# Altium integrated library NSC MiscPower.IntLib: 1417 symbols (part 19 of 39)
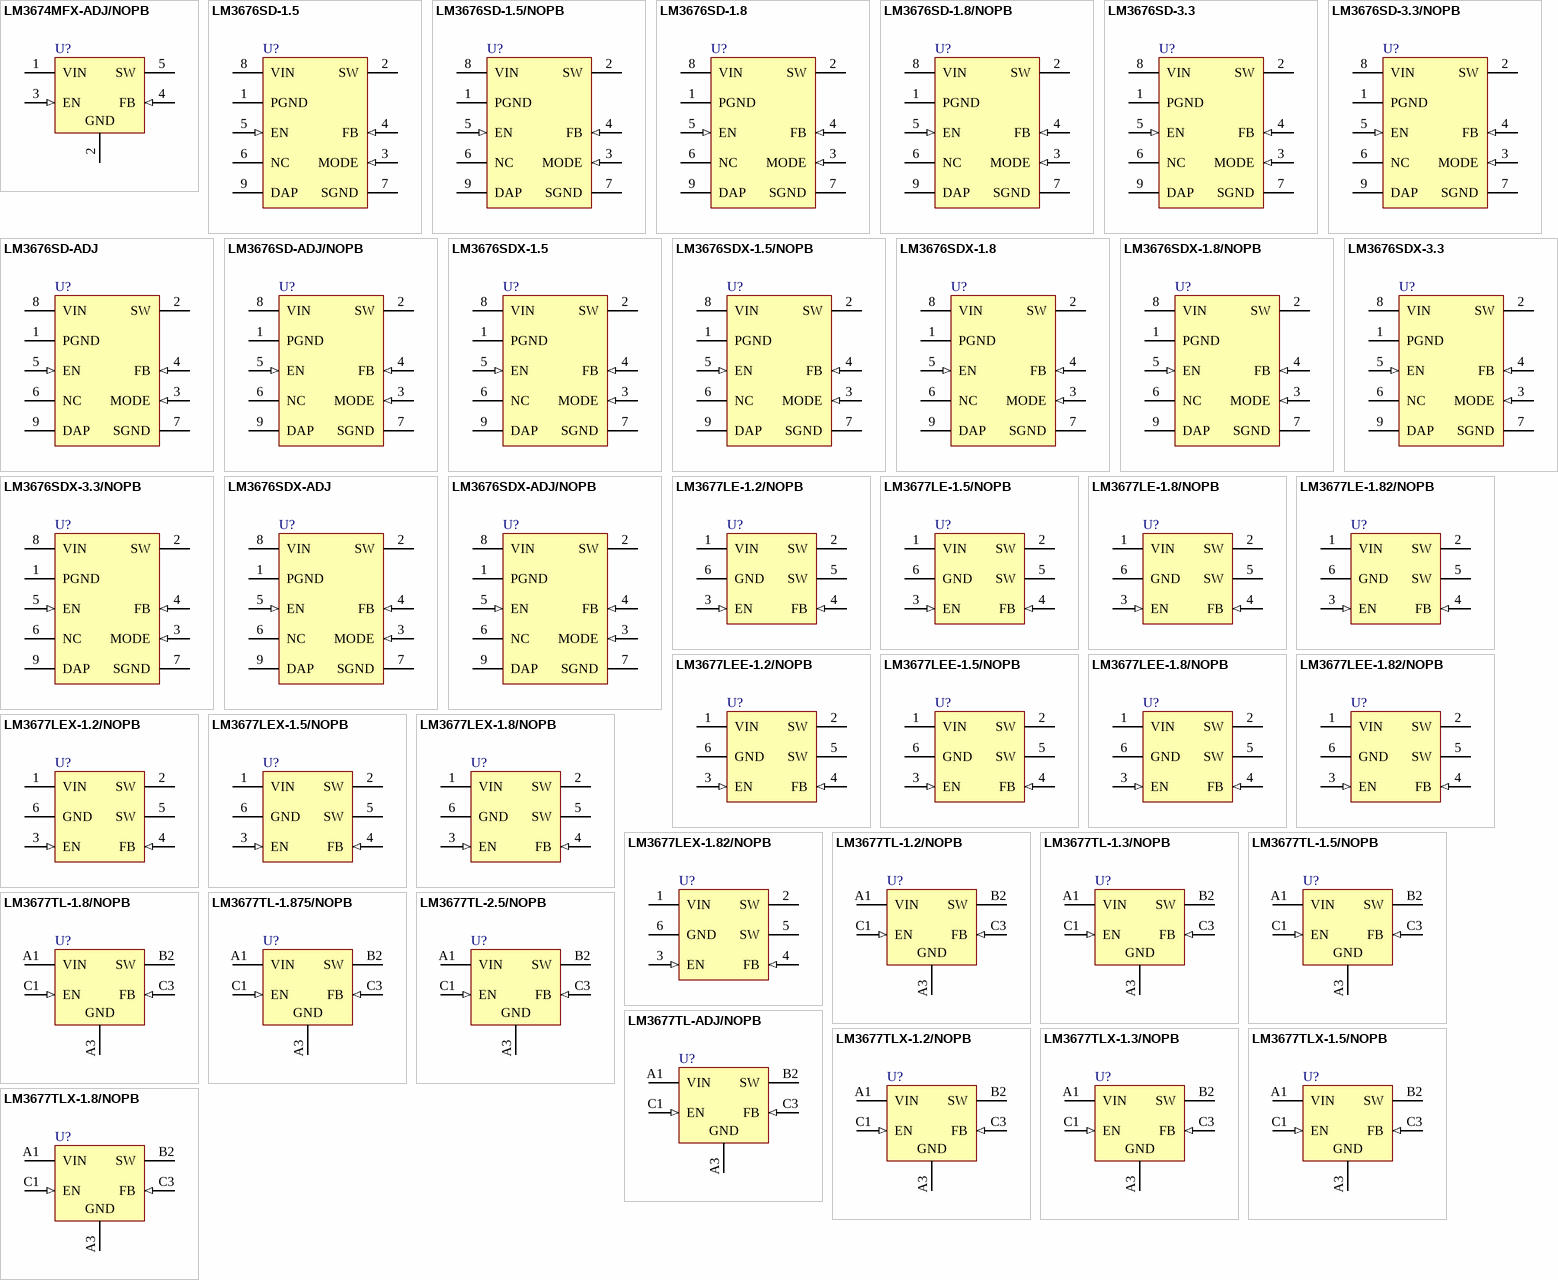
[diagram p69: symbols LM3674MFX-ADJ/NOPB to LM3677TLX-1.8/NOPB]

## LM3677LEE-1.8/NOPB
designator U?
3MHz, 600mA Miniature Step-Down DC-DC Converter for Ultra Low Voltage Circuits, 6-pin LLP, Pb-Free; PartNumber: LM3677LEE-1.8/NOPB; Manufacturer: National Semiconductor; PackageTopMarking: XVN; PowerWise: N; CompType: MiscPower; Published: 1-Mar-2010; DatasheetVersion: Feb-2008; PackageVersion: revB, Apr-2008; PackageReference: LEB06A; Publisher: Altium Limited; PackageDescription: LLP, 2 x 1.5 x 0.6mm, 6 Lead, 0.5mm Pitch, No Pullback; Supplier 1: Digi-Key; Supplier Part Number 1: LM3677LEE-1.8TR-ND; Supplier 2: Digi-Key; Supplier Part Number 2: LM3677LEE-1.8CT-ND; Supplier 3: Digi-Key; Supplier Part Number 3: LM3677LEE-1.8DKR-ND; RoHS: Y; PinCount: 6; ComponentLink1Description: LM3677 Datasheet; ComponentLink1URL: http://www.national.com/ds/LM/LM3677.pdf; ComponentLink2Description: LM3677 Web Page; ComponentLink2URL: http://www.national.com/pf/LM/LM3677.html; ComponentLink3Description: LEB06A Package Page; ComponentLink3URL: http://www.national.com/packaging/folders/leb06a.html
footprint LEB06A (SON, 6-Leads, Body 2x1.5mm, Pitch 0.5mm, NSC Recommended)
pins: 1 VIN (power), 2 SW (power), 3 EN (in), 4 FB (in), 5 SW (power), 6 GND (power)

## LM3677LEE-1.82/NOPB
designator U?
3MHz, 600mA Miniature Step-Down DC-DC Converter for Ultra Low Voltage Circuits, 6-pin LLP, Pb-Free; PartNumber: LM3677LEE-1.82/NOPB; Manufacturer: National Semiconductor; PackageTopMarking: XV5; PowerWise: N; CompType: MiscPower; Published: 1-Mar-2010; DatasheetVersion: Feb-2008; PackageVersion: revB, Apr-2008; PackageReference: LEB06A; Publisher: Altium Limited; PackageDescription: LLP, 2 x 1.5 x 0.6mm, 6 Lead, 0.5mm Pitch, No Pullback; Supplier 1: Digi-Key; Supplier Part Number 1: LM3677LEE-1.82TR-ND; Supplier 2: Digi-Key; Supplier Part Number 2: LM3677LEE-1.82CT-ND; Supplier 3: Digi-Key; Supplier Part Number 3: LM3677LEE-1.82DKR-ND; RoHS: Y; PinCount: 6; ComponentLink1Description: LM3677 Datasheet; ComponentLink1URL: http://www.national.com/ds/LM/LM3677.pdf; ComponentLink2Description: LM3677 Web Page; ComponentLink2URL: http://www.national.com/pf/LM/LM3677.html; ComponentLink3Description: LEB06A Package Page; ComponentLink3URL: http://www.national.com/packaging/folders/leb06a.html
footprint LEB06A (SON, 6-Leads, Body 2x1.5mm, Pitch 0.5mm, NSC Recommended)
pins: 1 VIN (power), 2 SW (power), 3 EN (in), 4 FB (in), 5 SW (power), 6 GND (power)

## LM3677LEX-1.2/NOPB
designator U?
3MHz, 600mA Miniature Step-Down DC-DC Converter for Ultra Low Voltage Circuits, 6-pin LLP, Pb-Free; PartNumber: LM3677LEX-1.2/NOPB; Manufacturer: National Semiconductor; PackageTopMarking: XVK; PowerWise: N; CompType: MiscPower; Published: 1-Mar-2010; DatasheetVersion: Feb-2008; PackageVersion: revB, Apr-2008; PackageReference: LEB06A; Publisher: Altium Limited; PackageDescription: LLP, 2 x 1.5 x 0.6mm, 6 Lead, 0.5mm Pitch, No Pullback; Supplier 1: Digi-Key; Supplier Part Number 1: LM3677LEX-1.2-ND; RoHS: Y; PinCount: 6; ComponentLink1Description: LM3677 Datasheet; ComponentLink1URL: http://www.national.com/ds/LM/LM3677.pdf; ComponentLink2Description: LM3677 Web Page; ComponentLink2URL: http://www.national.com/pf/LM/LM3677.html; ComponentLink3Description: LEB06A Package Page; ComponentLink3URL: http://www.national.com/packaging/folders/leb06a.html
footprint LEB06A (SON, 6-Leads, Body 2x1.5mm, Pitch 0.5mm, NSC Recommended)
pins: 1 VIN (power), 2 SW (power), 3 EN (in), 4 FB (in), 5 SW (power), 6 GND (power)

## LM3677LEX-1.5/NOPB
designator U?
3MHz, 600mA Miniature Step-Down DC-DC Converter for Ultra Low Voltage Circuits, 6-pin LLP, Pb-Free; PartNumber: LM3677LEX-1.5/NOPB; Manufacturer: National Semiconductor; PackageTopMarking: XVL; PowerWise: N; CompType: MiscPower; Published: 1-Mar-2010; DatasheetVersion: Feb-2008; PackageVersion: revB, Apr-2008; PackageReference: LEB06A; Publisher: Altium Limited; PackageDescription: LLP, 2 x 1.5 x 0.6mm, 6 Lead, 0.5mm Pitch, No Pullback; Supplier 1: Digi-Key; Supplier Part Number 1: LM3677LEX-1.5-ND; RoHS: Y; PinCount: 6; ComponentLink1Description: LM3677 Datasheet; ComponentLink1URL: http://www.national.com/ds/LM/LM3677.pdf; ComponentLink2Description: LM3677 Web Page; ComponentLink2URL: http://www.national.com/pf/LM/LM3677.html; ComponentLink3Description: LEB06A Package Page; ComponentLink3URL: http://www.national.com/packaging/folders/leb06a.html
footprint LEB06A (SON, 6-Leads, Body 2x1.5mm, Pitch 0.5mm, NSC Recommended)
pins: 1 VIN (power), 2 SW (power), 3 EN (in), 4 FB (in), 5 SW (power), 6 GND (power)

## LM3677LEX-1.8/NOPB
designator U?
3MHz, 600mA Miniature Step-Down DC-DC Converter for Ultra Low Voltage Circuits, 6-pin LLP, Pb-Free; PartNumber: LM3677LEX-1.8/NOPB; Manufacturer: National Semiconductor; PackageTopMarking: XVN; PowerWise: Y; CompType: MiscPower; Published: 1-Mar-2010; DatasheetVersion: Feb-2008; PackageVersion: revB, Apr-2008; PackageReference: LEB06A; Publisher: Altium Limited; PackageDescription: LLP, 2 x 1.5 x 0.6mm, 6 Lead, 0.5mm Pitch, No Pullback; Supplier 1: Digi-Key; Supplier Part Number 1: LM3677LEX-1.8-ND; RoHS: Y; PinCount: 6; ComponentLink1Description: LM3677 Datasheet; ComponentLink1URL: http://www.national.com/ds/LM/LM3677.pdf; ComponentLink2Description: LM3677 Web Page; ComponentLink2URL: http://www.national.com/pf/LM/LM3677.html; ComponentLink3Description: LEB06A Package Page; ComponentLink3URL: http://www.national.com/packaging/folders/leb06a.html
footprint LEB06A (SON, 6-Leads, Body 2x1.5mm, Pitch 0.5mm, NSC Recommended)
pins: 1 VIN (power), 2 SW (power), 3 EN (in), 4 FB (in), 5 SW (power), 6 GND (power)

## LM3677LEX-1.82/NOPB
designator U?
3MHz, 600mA Miniature Step-Down DC-DC Converter for Ultra Low Voltage Circuits, 6-pin LLP, Pb-Free; PartNumber: LM3677LEX-1.82/NOPB; Manufacturer: National Semiconductor; PackageTopMarking: XV5; PowerWise: N; CompType: MiscPower; Published: 1-Mar-2010; DatasheetVersion: Feb-2008; PackageVersion: revB, Apr-2008; PackageReference: LEB06A; Publisher: Altium Limited; PackageDescription: LLP, 2 x 1.5 x 0.6mm, 6 Lead, 0.5mm Pitch, No Pullback; Supplier 1: Digi-Key; Supplier Part Number 1: LM3677LEX-1.82-ND; RoHS: Y; PinCount: 6; ComponentLink1Description: LM3677 Datasheet; ComponentLink1URL: http://www.national.com/ds/LM/LM3677.pdf; ComponentLink2Description: LM3677 Web Page; ComponentLink2URL: http://www.national.com/pf/LM/LM3677.html; ComponentLink3Description: LEB06A Package Page; ComponentLink3URL: http://www.national.com/packaging/folders/leb06a.html
footprint LEB06A (SON, 6-Leads, Body 2x1.5mm, Pitch 0.5mm, NSC Recommended)
pins: 1 VIN (power), 2 SW (power), 3 EN (in), 4 FB (in), 5 SW (power), 6 GND (power)

## LM3677TL-1.2/NOPB
designator U?
3MHz, 600mA Miniature Step-Down DC-DC Converter for Ultra Low Voltage Circuits, 5-pin Micro SMD, Pb-Free; PartNumber: LM3677TL-1.2/NOPB; Manufacturer: National Semiconductor; PackageTopMarking: XV*I 3; PowerWise: N; CompType: MiscPower; Published: 1-Mar-2010; DatasheetVersion: Oct-2008; PackageVersion: revC, Feb-2005; PackageReference: TLA05EFA; Publisher: Altium Limited; PackageDescription: Thin Micro SMD, 5 Bump (Large), 0.5mm Pitch; Supplier 1: Digi-Key; Supplier Part Number 1: LM3677TL-1.2TR-ND; Supplier 2: Digi-Key; Supplier Part Number 2: LM3677TL-1.2CT-ND; Supplier 3: Digi-Key; Supplier Part Number 3: LM3677TL-1.2DKR-ND; RoHS: Y; PinCount: 5; ComponentLink1Description: LM3677 Datasheet; ComponentLink1URL: http://www.national.com/ds/LM/LM3677.pdf; ComponentLink2Description: LM3677 Web Page; ComponentLink2URL: http://www.national.com/pf/LM/LM3677.html; ComponentLink3Description: TLA05EFA Package Page; ComponentLink3URL: http://www.national.com/packaging/folders/tla05efa.html
footprint TLA05EFA (Micro SMD, 5-Leads, Body 1.49x1.11mm, Pitch 0.5mm, NSC Recommended)
pins: A1 VIN (power), A3 GND (power), B2 SW (power), C1 EN (in), C3 FB (in)

## LM3677TL-1.3/NOPB
designator U?
3MHz, 600mA Miniature Step-Down DC-DC Converter for Ultra Low Voltage Circuits, 5-pin Micro SMD, Pb-Free; PartNumber: LM3677TL-1.3/NOPB; Manufacturer: National Semiconductor; PackageTopMarking: XV*I V; PowerWise: Y; CompType: MiscPower; Published: 1-Mar-2010; DatasheetVersion: Oct-2008; PackageVersion: revC, Feb-2005; PackageReference: TLA05EFA; Publisher: Altium Limited; PackageDescription: Thin Micro SMD, 5 Bump (Large), 0.5mm Pitch; Supplier 1: Digi-Key; Supplier Part Number 1: LM3677TL-1.3TR-ND; Supplier 2: Digi-Key; Supplier Part Number 2: LM3677TL-1.3CT-ND; Supplier 3: Digi-Key; Supplier Part Number 3: LM3677TL-1.3DKR-ND; RoHS: Y; PinCount: 5; ComponentLink1Description: LM3677 Datasheet; ComponentLink1URL: http://www.national.com/ds/LM/LM3677.pdf; ComponentLink2Description: LM3677 Web Page; ComponentLink2URL: http://www.national.com/pf/LM/LM3677.html; ComponentLink3Description: TLA05EFA Package Page; ComponentLink3URL: http://www.national.com/packaging/folders/tla05efa.html
footprint TLA05EFA (Micro SMD, 5-Leads, Body 1.49x1.11mm, Pitch 0.5mm, NSC Recommended)
pins: A1 VIN (power), A3 GND (power), B2 SW (power), C1 EN (in), C3 FB (in)

## LM3677TL-1.5/NOPB
designator U?
3MHz, 600mA Miniature Step-Down DC-DC Converter for Ultra Low Voltage Circuits, 5-pin Micro SMD, Pb-Free; PartNumber: LM3677TL-1.5/NOPB; Manufacturer: National Semiconductor; PackageTopMarking: XV*I X; PowerWise: Y; CompType: MiscPower; Published: 1-Mar-2010; DatasheetVersion: Oct-2008; PackageVersion: revC, Feb-2005; PackageReference: TLA05EFA; Publisher: Altium Limited; PackageDescription: Thin Micro SMD, 5 Bump (Large), 0.5mm Pitch; Supplier 1: Digi-Key; Supplier Part Number 1: LM3677TL-1.5TR-ND; Supplier 2: Digi-Key; Supplier Part Number 2: LM3677TL-1.5CT-ND; Supplier 3: Digi-Key; Supplier Part Number 3: LM3677TL-1.5DKR-ND; RoHS: Y; PinCount: 5; ComponentLink1Description: LM3677 Datasheet; ComponentLink1URL: http://www.national.com/ds/LM/LM3677.pdf; ComponentLink2Description: LM3677 Web Page; ComponentLink2URL: http://www.national.com/pf/LM/LM3677.html; ComponentLink3Description: TLA05EFA Package Page; ComponentLink3URL: http://www.national.com/packaging/folders/tla05efa.html
footprint TLA05EFA (Micro SMD, 5-Leads, Body 1.49x1.11mm, Pitch 0.5mm, NSC Recommended)
pins: A1 VIN (power), A3 GND (power), B2 SW (power), C1 EN (in), C3 FB (in)

## LM3677TL-1.8/NOPB
designator U?
3MHz, 600mA Miniature Step-Down DC-DC Converter for Ultra Low Voltage Circuits, 5-pin Micro SMD, Pb-Free; PartNumber: LM3677TL-1.8/NOPB; Manufacturer: National Semiconductor; PackageTopMarking: XV*I Y; PowerWise: Y; CompType: MiscPower; Published: 1-Mar-2010; DatasheetVersion: Oct-2008; PackageVersion: revC, Feb-2005; PackageReference: TLA05EFA; Publisher: Altium Limited; PackageDescription: Thin Micro SMD, 5 Bump (Large), 0.5mm Pitch; Supplier 1: Digi-Key; Supplier Part Number 1: LM3677TL-1.8TR-ND; Supplier 2: Digi-Key; Supplier Part Number 2: LM3677TL-1.8CT-ND; Supplier 3: Digi-Key; Supplier Part Number 3: LM3677TL-1.8DKR-ND; RoHS: Y; PinCount: 5; ComponentLink1Description: LM3677 Datasheet; ComponentLink1URL: http://www.national.com/ds/LM/LM3677.pdf; ComponentLink2Description: LM3677 Web Page; ComponentLink2URL: http://www.national.com/pf/LM/LM3677.html; ComponentLink3Description: TLA05EFA Package Page; ComponentLink3URL: http://www.national.com/packaging/folders/tla05efa.html
footprint TLA05EFA (Micro SMD, 5-Leads, Body 1.49x1.11mm, Pitch 0.5mm, NSC Recommended)
pins: A1 VIN (power), A3 GND (power), B2 SW (power), C1 EN (in), C3 FB (in)

## LM3677TL-1.875/NOPB
designator U?
3MHz, 600mA Miniature Step-Down DC-DC Converter for Ultra Low Voltage Circuits, 5-pin Micro SMD, Pb-Free; PartNumber: LM3677TL-1.875/NOPB; Manufacturer: National Semiconductor; PackageTopMarking: XV*I 9; PowerWise: N; CompType: MiscPower; Published: 1-Mar-2010; DatasheetVersion: Oct-2008; PackageVersion: revC, Feb-2005; PackageReference: TLA05EFA; Publisher: Altium Limited; PackageDescription: Thin Micro SMD, 5 Bump (Large), 0.5mm Pitch; Supplier 1: Digi-Key; Supplier Part Number 1: LM3677TL-1.875TR-ND; Supplier 2: Digi-Key; Supplier Part Number 2: LM3677TL-1.875CT-ND; Supplier 3: Digi-Key; Supplier Part Number 3: LM3677TL-1.875DKR-ND; RoHS: Y; PinCount: 5; ComponentLink1Description: LM3677 Datasheet; ComponentLink1URL: http://www.national.com/ds/LM/LM3677.pdf; ComponentLink2Description: LM3677 Web Page; ComponentLink2URL: http://www.national.com/pf/LM/LM3677.html; ComponentLink3Description: TLA05EFA Package Page; ComponentLink3URL: http://www.national.com/packaging/folders/tla05efa.html
footprint TLA05EFA (Micro SMD, 5-Leads, Body 1.49x1.11mm, Pitch 0.5mm, NSC Recommended)
pins: A1 VIN (power), A3 GND (power), B2 SW (power), C1 EN (in), C3 FB (in)

## LM3677TL-2.5/NOPB
designator U?
3MHz, 600mA Miniature Step-Down DC-DC Converter for Ultra Low Voltage Circuits, 5-pin Micro SMD, Pb-Free; PartNumber: LM3677TL-2.5/NOPB; Manufacturer: National Semiconductor; PackageTopMarking: XV*I Z; PowerWise: Y; CompType: MiscPower; Published: 1-Mar-2010; DatasheetVersion: Oct-2008; PackageVersion: revC, Feb-2005; PackageReference: TLA05EFA; Publisher: Altium Limited; PackageDescription: Thin Micro SMD, 5 Bump (Large), 0.5mm Pitch; Supplier 1: Digi-Key; Supplier Part Number 1: LM3677TL-2.5TR-ND; Supplier 2: Digi-Key; Supplier Part Number 2: LM3677TL-2.5CT-ND; Supplier 3: Digi-Key; Supplier Part Number 3: LM3677TL-2.5DKR-ND; RoHS: Y; PinCount: 5; ComponentLink1Description: LM3677 Datasheet; ComponentLink1URL: http://www.national.com/ds/LM/LM3677.pdf; ComponentLink2Description: LM3677 Web Page; ComponentLink2URL: http://www.national.com/pf/LM/LM3677.html; ComponentLink3Description: TLA05EFA Package Page; ComponentLink3URL: http://www.national.com/packaging/folders/tla05efa.html
footprint TLA05EFA (Micro SMD, 5-Leads, Body 1.49x1.11mm, Pitch 0.5mm, NSC Recommended)
pins: A1 VIN (power), A3 GND (power), B2 SW (power), C1 EN (in), C3 FB (in)

## LM3677TL-ADJ/NOPB
designator U?
3MHz, 600mA Miniature Step-Down DC-DC Converter for Ultra Low Voltage Circuits, 5-pin Micro SMD, Pb-Free; PartNumber: LM3677TL-ADJ/NOPB; Manufacturer: National Semiconductor; PackageTopMarking: XV*I 4; PowerWise: N; CompType: MiscPower; Published: 1-Mar-2010; DatasheetVersion: Oct-2008; PackageVersion: revC, Feb-2005; PackageReference: TLA05EFA; Publisher: Altium Limited; PackageDescription: Thin Micro SMD, 5 Bump (Large), 0.5mm Pitch; Supplier 1: Digi-Key; Supplier Part Number 1: LM3677TL-ADJTR-ND; Supplier 2: Digi-Key; Supplier Part Number 2: LM3677TL-ADJCT-ND; Supplier 3: Digi-Key; Supplier Part Number 3: LM3677TL-ADJDKR-ND; RoHS: Y; PinCount: 5; ComponentLink1Description: LM3677 Datasheet; ComponentLink1URL: http://www.national.com/ds/LM/LM3677.pdf; ComponentLink2Description: LM3677 Web Page; ComponentLink2URL: http://www.national.com/pf/LM/LM3677.html; ComponentLink3Description: TLA05EFA Package Page; ComponentLink3URL: http://www.national.com/packaging/folders/tla05efa.html
footprint TLA05EFA (Micro SMD, 5-Leads, Body 1.49x1.11mm, Pitch 0.5mm, NSC Recommended)
pins: A1 VIN (power), A3 GND (power), B2 SW (power), C1 EN (in), C3 FB (in)

## LM3677TLX-1.2/NOPB
designator U?
3MHz, 600mA Miniature Step-Down DC-DC Converter for Ultra Low Voltage Circuits, 5-pin Micro SMD, Pb-Free; PartNumber: LM3677TLX-1.2/NOPB; Manufacturer: National Semiconductor; PackageTopMarking: XV*I 3; PowerWise: N; CompType: MiscPower; Published: 1-Mar-2010; DatasheetVersion: Feb-2008; PackageVersion: revC, Feb-2005; PackageReference: TLA05EFA; Publisher: Altium Limited; PackageDescription: Thin Micro SMD, 5 Bump (Large), 0.5mm Pitch; Supplier 1: Digi-Key; Supplier Part Number 1: LM3677TLX-1.2-ND; RoHS: Y; PinCount: 5; ComponentLink1Description: LM3677 Datasheet; ComponentLink1URL: http://www.national.com/ds/LM/LM3677.pdf; ComponentLink2Description: LM3677 Web Page; ComponentLink2URL: http://www.national.com/pf/LM/LM3677.html; ComponentLink3Description: TLA05EFA Package Page; ComponentLink3URL: http://www.national.com/packaging/folders/tla05efa.html
footprint TLA05EFA (Micro SMD, 5-Leads, Body 1.49x1.11mm, Pitch 0.5mm, NSC Recommended)
pins: A1 VIN (power), A3 GND (power), B2 SW (power), C1 EN (in), C3 FB (in)

## LM3677TLX-1.3/NOPB
designator U?
3MHz, 600mA Miniature Step-Down DC-DC Converter for Ultra Low Voltage Circuits, 5-pin Micro SMD, Pb-Free; PartNumber: LM3677TLX-1.3/NOPB; Manufacturer: National Semiconductor; PackageTopMarking: XV*I V; PowerWise: Y; CompType: MiscPower; Published: 1-Mar-2010; DatasheetVersion: Feb-2008; PackageVersion: revC, Feb-2005; PackageReference: TLA05EFA; Publisher: Altium Limited; PackageDescription: Thin Micro SMD, 5 Bump (Large), 0.5mm Pitch; Supplier 1: Digi-Key; Supplier Part Number 1: LM3677TLX-1.3-ND; RoHS: Y; PinCount: 5; ComponentLink1Description: LM3677 Datasheet; ComponentLink1URL: http://www.national.com/ds/LM/LM3677.pdf; ComponentLink2Description: LM3677 Web Page; ComponentLink2URL: http://www.national.com/pf/LM/LM3677.html; ComponentLink3Description: TLA05EFA Package Page; ComponentLink3URL: http://www.national.com/packaging/folders/tla05efa.html
footprint TLA05EFA (Micro SMD, 5-Leads, Body 1.49x1.11mm, Pitch 0.5mm, NSC Recommended)
pins: A1 VIN (power), A3 GND (power), B2 SW (power), C1 EN (in), C3 FB (in)

## LM3677TLX-1.5/NOPB
designator U?
3MHz, 600mA Miniature Step-Down DC-DC Converter for Ultra Low Voltage Circuits, 5-pin Micro SMD, Pb-Free; PartNumber: LM3677TLX-1.5/NOPB; Manufacturer: National Semiconductor; PackageTopMarking: XV*I X; PowerWise: Y; CompType: MiscPower; Published: 1-Mar-2010; DatasheetVersion: Feb-2008; PackageVersion: revC, Feb-2005; PackageReference: TLA05EFA; Publisher: Altium Limited; PackageDescription: Thin Micro SMD, 5 Bump (Large), 0.5mm Pitch; Supplier 1: Digi-Key; Supplier Part Number 1: LM3677TLX-1.5-ND; RoHS: Y; PinCount: 5; ComponentLink1Description: LM3677 Datasheet; ComponentLink1URL: http://www.national.com/ds/LM/LM3677.pdf; ComponentLink2Description: LM3677 Web Page; ComponentLink2URL: http://www.national.com/pf/LM/LM3677.html; ComponentLink3Description: TLA05EFA Package Page; ComponentLink3URL: http://www.national.com/packaging/folders/tla05efa.html
footprint TLA05EFA (Micro SMD, 5-Leads, Body 1.49x1.11mm, Pitch 0.5mm, NSC Recommended)
pins: A1 VIN (power), A3 GND (power), B2 SW (power), C1 EN (in), C3 FB (in)

## LM3677TLX-1.8/NOPB
designator U?
3MHz, 600mA Miniature Step-Down DC-DC Converter for Ultra Low Voltage Circuits, 5-pin Micro SMD, Pb-Free; PartNumber: LM3677TLX-1.8/NOPB; Manufacturer: National Semiconductor; PackageTopMarking: XV*I Y; PowerWise: Y; CompType: MiscPower; Published: 1-Mar-2010; DatasheetVersion: Feb-2008; PackageVersion: revC, Feb-2005; PackageReference: TLA05EFA; Publisher: Altium Limited; PackageDescription: Thin Micro SMD, 5 Bump (Large), 0.5mm Pitch; Supplier 1: Digi-Key; Supplier Part Number 1: LM3677TLX-1.8-ND; RoHS: Y; PinCount: 5; ComponentLink1Description: LM3677 Datasheet; ComponentLink1URL: http://www.national.com/ds/LM/LM3677.pdf; ComponentLink2Description: LM3677 Web Page; ComponentLink2URL: http://www.national.com/pf/LM/LM3677.html; ComponentLink3Description: TLA05EFA Package Page; ComponentLink3URL: http://www.national.com/packaging/folders/tla05efa.html
footprint TLA05EFA (Micro SMD, 5-Leads, Body 1.49x1.11mm, Pitch 0.5mm, NSC Recommended)
pins: A1 VIN (power), A3 GND (power), B2 SW (power), C1 EN (in), C3 FB (in)

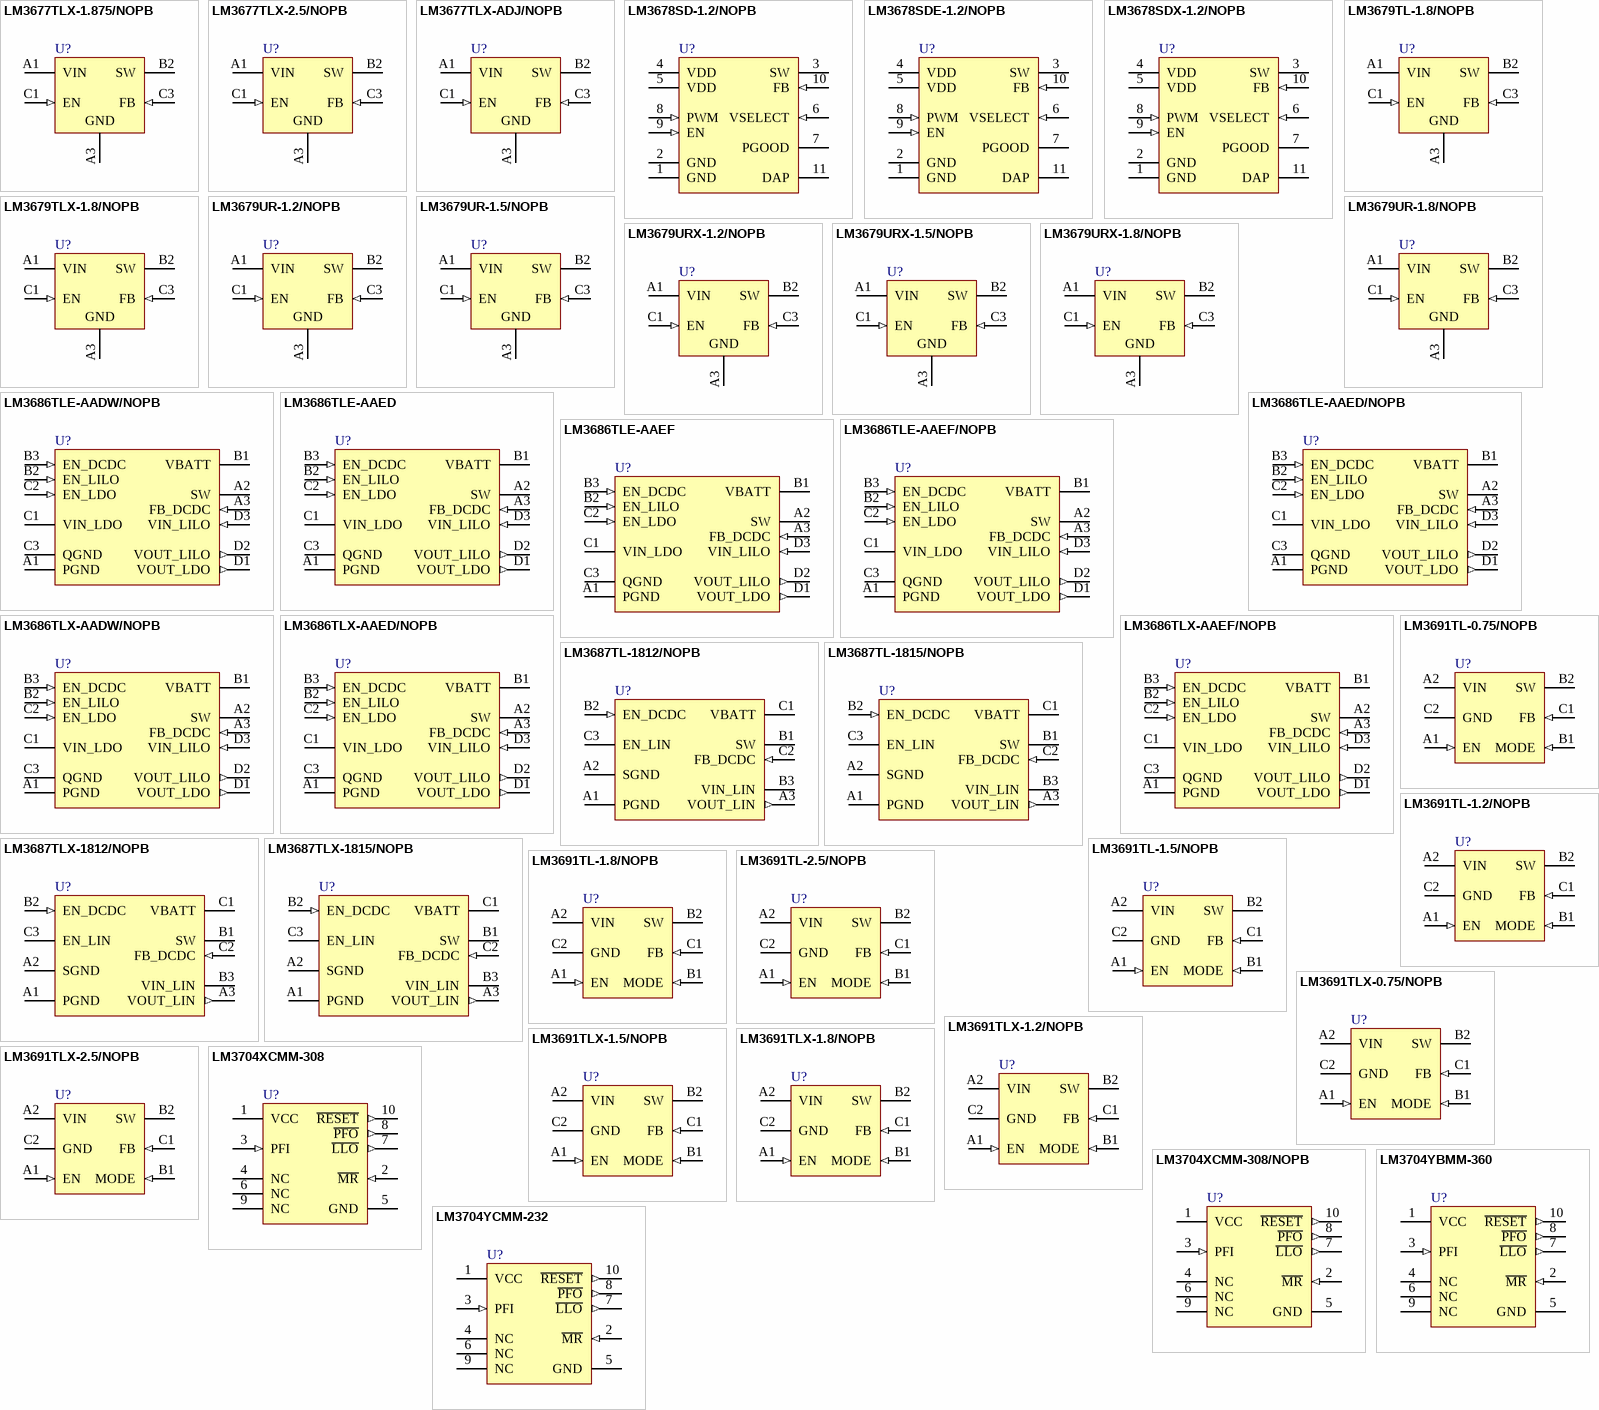
[diagram p21: symbols LM3677TLX-1.875/NOPB to LM3704YCMM-232]

## LM3677TLX-1.875/NOPB
designator U?
3MHz, 600mA Miniature Step-Down DC-DC Converter for Ultra Low Voltage Circuits, 5-pin Micro SMD, Pb-Free; PartNumber: LM3677TLX-1.875/NOPB; Manufacturer: National Semiconductor; PackageTopMarking: XV*I 9; PowerWise: N; CompType: MiscPower; Published: 1-Mar-2010; DatasheetVersion: Feb-2008; PackageVersion: revC, Feb-2005; PackageReference: TLA05EFA; Publisher: Altium Limited; PackageDescription: Thin Micro SMD, 5 Bump (Large), 0.5mm Pitch; Supplier 1: Digi-Key; Supplier Part Number 1: LM3677TLX-1.875-ND; RoHS: Y; PinCount: 5; ComponentLink1Description: LM3677 Datasheet; ComponentLink1URL: http://www.national.com/ds/LM/LM3677.pdf; ComponentLink2Description: LM3677 Web Page; ComponentLink2URL: http://www.national.com/pf/LM/LM3677.html; ComponentLink3Description: TLA05EFA Package Page; ComponentLink3URL: http://www.national.com/packaging/folders/tla05efa.html
footprint TLA05EFA (Micro SMD, 5-Leads, Body 1.49x1.11mm, Pitch 0.5mm, NSC Recommended)
pins: A1 VIN (power), A3 GND (power), B2 SW (power), C1 EN (in), C3 FB (in)

## LM3677TLX-2.5/NOPB
designator U?
3MHz, 600mA Miniature Step-Down DC-DC Converter for Ultra Low Voltage Circuits, 5-pin Micro SMD, Pb-Free; PartNumber: LM3677TLX-2.5/NOPB; Manufacturer: National Semiconductor; PackageTopMarking: XV*I Z; PowerWise: Y; CompType: MiscPower; Published: 1-Mar-2010; DatasheetVersion: Feb-2008; PackageVersion: revC, Feb-2005; PackageReference: TLA05EFA; Publisher: Altium Limited; PackageDescription: Thin Micro SMD, 5 Bump (Large), 0.5mm Pitch; Supplier 1: Digi-Key; Supplier Part Number 1: LM3677TLX-2.5-ND; RoHS: Y; PinCount: 5; ComponentLink1Description: LM3677 Datasheet; ComponentLink1URL: http://www.national.com/ds/LM/LM3677.pdf; ComponentLink2Description: LM3677 Web Page; ComponentLink2URL: http://www.national.com/pf/LM/LM3677.html; ComponentLink3Description: TLA05EFA Package Page; ComponentLink3URL: http://www.national.com/packaging/folders/tla05efa.html
footprint TLA05EFA (Micro SMD, 5-Leads, Body 1.49x1.11mm, Pitch 0.5mm, NSC Recommended)
pins: A1 VIN (power), A3 GND (power), B2 SW (power), C1 EN (in), C3 FB (in)

## LM3677TLX-ADJ/NOPB
designator U?
3MHz, 600mA Miniature Step-Down DC-DC Converter for Ultra Low Voltage Circuits, 5-pin Micro SMD, Pb-Free; PartNumber: LM3677TLX-ADJ/NOPB; Manufacturer: National Semiconductor; PackageTopMarking: XV*I 4; PowerWise: N; CompType: MiscPower; Published: 1-Mar-2010; DatasheetVersion: Feb-2008; PackageVersion: revC, Feb-2005; PackageReference: TLA05EFA; Publisher: Altium Limited; PackageDescription: Thin Micro SMD, 5 Bump (Large), 0.5mm Pitch; Supplier 1: Digi-Key; Supplier Part Number 1: LM3677TLX-ADJ-ND; RoHS: Y; PinCount: 5; ComponentLink1Description: LM3677 Datasheet; ComponentLink1URL: http://www.national.com/ds/LM/LM3677.pdf; ComponentLink2Description: LM3677 Web Page; ComponentLink2URL: http://www.national.com/pf/LM/LM3677.html; ComponentLink3Description: TLA05EFA Package Page; ComponentLink3URL: http://www.national.com/packaging/folders/tla05efa.html
footprint TLA05EFA (Micro SMD, 5-Leads, Body 1.49x1.11mm, Pitch 0.5mm, NSC Recommended)
pins: A1 VIN (power), A3 GND (power), B2 SW (power), C1 EN (in), C3 FB (in)

## LM3678SD-1.2/NOPB
designator U?
High-Performance, Miniature 1.5A Step-Down DC-DC Converter for Handheld Applications, 10-pin LLP, Pb-Free; PartNumber: LM3678SD-1.2/NOPB; Manufacturer: National Semiconductor; PackageTopMarking: ZXYTT*S021B; PowerWise: Y; CompType: MiscPower; Published: 1-Mar-2010; DatasheetVersion: Jan-2009; PackageVersion: revA, Oct-2003; PackageReference: SDA10A; Publisher: Altium Limited; PackageDescription: LLP, Plastic, Dual, 3 x 3 x 0.8mm Body, 10 Lead, 0.5mm Pitch, No Pullback; Supplier 1: Digi-Key; Supplier Part Number 1: LM3678SD-1.2TR-ND; Supplier 2: Digi-Key; Supplier Part Number 2: LM3678SD-1.2CT-ND; Supplier 3: Digi-Key; Supplier Part Number 3: LM3678SD-1.2DKR-ND; RoHS: Y; PinCount: 10; ComponentLink1Description: LM3678 Datasheet; ComponentLink1URL: http://www.national.com/ds/LM/LM3678.pdf; ComponentLink2Description: LM3678 Web Page; ComponentLink2URL: http://www.national.com/pf/LM/LM3678.html; ComponentLink3Description: SDA10A Package Page; ComponentLink3URL: http://www.national.com/packaging/folders/sda10a.html
footprint SDA10A (SON, 10-Leads, Body 3x3 mm, Pitch 0.5mm, NSC Recommended)
pins: 1 GND (power), 2 GND (power), 3 SW (power), 4 VDD (power), 5 VDD (power), 6 VSELECT (in), 7 PGOOD (oc), 8 PWM (in), 9 EN (in), 10 FB (in), 11 DAP (power)

## LM3678SDE-1.2/NOPB
designator U?
High-Performance, Miniature 1.5A Step-Down DC-DC Converter for Handheld Applications, 10-pin LLP, Pb-Free; PartNumber: LM3678SDE-1.2/NOPB; Manufacturer: National Semiconductor; PackageTopMarking: ZXYTT*S021B; PowerWise: Y; CompType: MiscPower; Published: 1-Mar-2010; DatasheetVersion: Jan-2009; PackageVersion: revA, Oct-2003; PackageReference: SDA10A; Publisher: Altium Limited; PackageDescription: LLP, Plastic, Dual, 3 x 3 x 0.8mm Body, 10 Lead, 0.5mm Pitch, No Pullback; Supplier 1: Digi-Key; Supplier Part Number 1: LM3678SDE-1.2TR-ND; Supplier 2: Digi-Key; Supplier Part Number 2: LM3678SDE-1.2CT-ND; Supplier 3: Digi-Key; Supplier Part Number 3: LM3678SDE-1.2DKR-ND; RoHS: Y; PinCount: 10; ComponentLink1Description: LM3678 Datasheet; ComponentLink1URL: http://www.national.com/ds/LM/LM3678.pdf; ComponentLink2Description: LM3678 Web Page; ComponentLink2URL: http://www.national.com/pf/LM/LM3678.html; ComponentLink3Description: SDA10A Package Page; ComponentLink3URL: http://www.national.com/packaging/folders/sda10a.html
footprint SDA10A (SON, 10-Leads, Body 3x3 mm, Pitch 0.5mm, NSC Recommended)
pins: 1 GND (power), 2 GND (power), 3 SW (power), 4 VDD (power), 5 VDD (power), 6 VSELECT (in), 7 PGOOD (oc), 8 PWM (in), 9 EN (in), 10 FB (in), 11 DAP (power)

## LM3678SDX-1.2/NOPB
designator U?
High-Performance, Miniature 1.5A Step-Down DC-DC Converter for Handheld Applications, 10-pin LLP, Pb-Free; PartNumber: LM3678SDX-1.2/NOPB; Manufacturer: National Semiconductor; PackageTopMarking: ZXYTT*S021B; PowerWise: Y; CompType: MiscPower; Published: 1-Mar-2010; DatasheetVersion: Jan-2009; PackageVersion: revA, Oct-2003; PackageReference: SDA10A; Publisher: Altium Limited; PackageDescription: LLP, Plastic, Dual, 3 x 3 x 0.8mm Body, 10 Lead, 0.5mm Pitch, No Pullback; Supplier 1: Digi-Key; Supplier Part Number 1: LM3678SDX-1.2-ND; RoHS: Y; PinCount: 10; ComponentLink1Description: LM3678 Datasheet; ComponentLink1URL: http://www.national.com/ds/LM/LM3678.pdf; ComponentLink2Description: LM3678 Web Page; ComponentLink2URL: http://www.national.com/pf/LM/LM3678.html; ComponentLink3Description: SDA10A Package Page; ComponentLink3URL: http://www.national.com/packaging/folders/sda10a.html
footprint SDA10A (SON, 10-Leads, Body 3x3 mm, Pitch 0.5mm, NSC Recommended)
pins: 1 GND (power), 2 GND (power), 3 SW (power), 4 VDD (power), 5 VDD (power), 6 VSELECT (in), 7 PGOOD (oc), 8 PWM (in), 9 EN (in), 10 FB (in), 11 DAP (power)

## LM3679TL-1.8/NOPB
designator U?
3MHz, 350mA Miniature Step-Down DC-DC Converter for Ultra Low Profile Applications (Height < 0.55mm), 5-pin Micro SMD, Pb-Free; PartNumber: LM3679TL-1.8/NOPB; Manufacturer: National Semiconductor; PackageTopMarking: XV*I F; PowerWise: Y; CompType: MiscPower; Published: 1-Mar-2010; DatasheetVersion: Feb-2008; PackageVersion: revC, Feb-2005; PackageReference: TLA05EFA; Publisher: Altium Limited; PackageDescription: Thin Micro SMD, 5 Bump (Large), 0.5mm Pitch; Supplier 1: Digi-Key; Supplier Part Number 1: LM3679TL-1.8TR-ND; Supplier 2: Digi-Key; Supplier Part Number 2: LM3679TL-1.8CT-ND; Supplier 3: Digi-Key; Supplier Part Number 3: LM3679TL-1.8DKR-ND; RoHS: Y; PinCount: 5; ComponentLink1Description: LM3679 Datasheet; ComponentLink1URL: http://www.national.com/ds/LM/LM3679.pdf; ComponentLink2Description: LM3679 Web Page; ComponentLink2URL: http://www.national.com/pf/LM/LM3679.html; ComponentLink3Description: TLA05EFA Package Page; ComponentLink3URL: http://www.national.com/packaging/folders/tla05efa.html
footprint TLA05EFA (Micro SMD, 5-Leads, Body 1.49x1.11mm, Pitch 0.5mm, NSC Recommended)
pins: A1 VIN (power), A3 GND (power), B2 SW (power), C1 EN (in), C3 FB (in)

## LM3679TLX-1.8/NOPB
designator U?
3MHz, 350mA Miniature Step-Down DC-DC Converter for Ultra Low Profile Applications (Height < 0.55mm), 5-pin Micro SMD, Pb-Free; PartNumber: LM3679TLX-1.8/NOPB; Manufacturer: National Semiconductor; PackageTopMarking: XV*I F; PowerWise: Y; CompType: MiscPower; Published: 1-Mar-2010; DatasheetVersion: Feb-2008; PackageVersion: revC, Feb-2005; PackageReference: TLA05EFA; Publisher: Altium Limited; PackageDescription: Thin Micro SMD, 5 Bump (Large), 0.5mm Pitch; Supplier 1: Digi-Key; Supplier Part Number 1: LM3679TLX-1.8-ND; RoHS: Y; PinCount: 5; ComponentLink1Description: LM3679 Datasheet; ComponentLink1URL: http://www.national.com/ds/LM/LM3679.pdf; ComponentLink2Description: LM3679 Web Page; ComponentLink2URL: http://www.national.com/pf/LM/LM3679.html; ComponentLink3Description: TLA05EFA Package Page; ComponentLink3URL: http://www.national.com/packaging/folders/tla05efa.html
footprint TLA05EFA (Micro SMD, 5-Leads, Body 1.49x1.11mm, Pitch 0.5mm, NSC Recommended)
pins: A1 VIN (power), A3 GND (power), B2 SW (power), C1 EN (in), C3 FB (in)

## LM3679UR-1.2/NOPB
designator U?
3MHz, 350mA Miniature Step-Down DC-DC Converter for Ultra Low Profile Applications (Height < 0.55mm), 5-pin Micro SMD, Pb-Free; PartNumber: LM3679UR-1.2/NOPB; Manufacturer: National Semiconductor; PackageTopMarking: XV*I Z; PowerWise: N; CompType: MiscPower; Published: 1-Mar-2010; DatasheetVersion: Feb-2008; PackageVersion: Feb-2008; PackageReference: URA05HHA; Publisher: Altium Limited; PackageDescription: Ultra Thin Micro SMD, 5 Bump (Large), 0.5mm Pitch; Supplier 1: Digi-Key; Supplier Part Number 1: LM3679UR-1.2TR-ND; Supplier 2: Digi-Key; Supplier Part Number 2: LM3679UR-1.2CT-ND; Supplier 3: Digi-Key; Supplier Part Number 3: LM3679UR-1.2DKR-ND; RoHS: Y; PinCount: 5; ComponentLink1Description: LM3679 Datasheet; ComponentLink1URL: http://www.national.com/ds/LM/LM3679.pdf; ComponentLink2Description: LM3679 Web Page; ComponentLink2URL: http://www.national.com/pf/LM/LM3679.html; ComponentLink3Description: URA05HHA Package Page; ComponentLink3URL: http://www.national.com/packaging/folders/ura05hha.html
footprint URA05HHA (Micro SMD, 5-Leads, Body 1.5x1.13mm, Pitch 0.5mm, NSC Recommended)
pins: A1 VIN (power), A3 GND (power), B2 SW (power), C1 EN (in), C3 FB (in)

## LM3679UR-1.5/NOPB
designator U?
3MHz, 350mA Miniature Step-Down DC-DC Converter for Ultra Low Profile Applications (Height < 0.55mm), 5-pin Micro SMD, Pb-Free; PartNumber: LM3679UR-1.5/NOPB; Manufacturer: National Semiconductor; PackageTopMarking: XV*I 4; PowerWise: N; CompType: MiscPower; Published: 1-Mar-2010; DatasheetVersion: Feb-2008; PackageVersion: Feb-2008; PackageReference: URA05HHA; Publisher: Altium Limited; PackageDescription: Ultra Thin Micro SMD, 5 Bump (Large), 0.5mm Pitch; Supplier 1: Digi-Key; Supplier Part Number 1: LM3679UR-1.5TR-ND; Supplier 2: Digi-Key; Supplier Part Number 2: LM3679UR-1.5CT-ND; Supplier 3: Digi-Key; Supplier Part Number 3: LM3679UR-1.5DKR-ND; RoHS: Y; PinCount: 5; ComponentLink1Description: LM3679 Datasheet; ComponentLink1URL: http://www.national.com/ds/LM/LM3679.pdf; ComponentLink2Description: LM3679 Web Page; ComponentLink2URL: http://www.national.com/pf/LM/LM3679.html; ComponentLink3Description: URA05HHA Package Page; ComponentLink3URL: http://www.national.com/packaging/folders/ura05hha.html
footprint URA05HHA (Micro SMD, 5-Leads, Body 1.5x1.13mm, Pitch 0.5mm, NSC Recommended)
pins: A1 VIN (power), A3 GND (power), B2 SW (power), C1 EN (in), C3 FB (in)

## LM3679UR-1.8/NOPB
designator U?
3MHz, 350mA Miniature Step-Down DC-DC Converter for Ultra Low Profile Applications (Height < 0.55mm), 5-pin Micro SMD, Pb-Free; PartNumber: LM3679UR-1.8/NOPB; Manufacturer: National Semiconductor; PackageTopMarking: XV*I R; PowerWise: Y; CompType: MiscPower; Published: 1-Mar-2010; DatasheetVersion: Feb-2008; PackageVersion: Feb-2008; PackageReference: URA05HHA; Publisher: Altium Limited; PackageDescription: Ultra Thin Micro SMD, 5 Bump (Large), 0.5mm Pitch; Supplier 1: Digi-Key; Supplier Part Number 1: LM3679UR-1.8TR-ND; Supplier 2: Digi-Key; Supplier Part Number 2: LM3679UR-1.8CT-ND; Supplier 3: Digi-Key; Supplier Part Number 3: LM3679UR-1.8DKR-ND; RoHS: Y; PinCount: 5; ComponentLink1Description: LM3679 Datasheet; ComponentLink1URL: http://www.national.com/ds/LM/LM3679.pdf; ComponentLink2Description: LM3679 Web Page; ComponentLink2URL: http://www.national.com/pf/LM/LM3679.html; ComponentLink3Description: URA05HHA Package Page; ComponentLink3URL: http://www.national.com/packaging/folders/ura05hha.html
footprint URA05HHA (Micro SMD, 5-Leads, Body 1.5x1.13mm, Pitch 0.5mm, NSC Recommended)
pins: A1 VIN (power), A3 GND (power), B2 SW (power), C1 EN (in), C3 FB (in)

## LM3679URX-1.2/NOPB
designator U?
3MHz, 350mA Miniature Step-Down DC-DC Converter for Ultra Low Profile Applications (Height < 0.55mm), 5-pin Micro SMD, Pb-Free; PartNumber: LM3679URX-1.2/NOPB; Manufacturer: National Semiconductor; PackageTopMarking: XV*I Z; PowerWise: N; CompType: MiscPower; Published: 1-Mar-2010; DatasheetVersion: Feb-2008; PackageVersion: Feb-2008; PackageReference: URA05HHA; Publisher: Altium Limited; PackageDescription: Ultra Thin Micro SMD, 5 Bump (Large), 0.5mm Pitch; Supplier 1: Digi-Key; Supplier Part Number 1: LM3679URX-1.2-ND; RoHS: Y; PinCount: 5; ComponentLink1Description: LM3679 Datasheet; ComponentLink1URL: http://www.national.com/ds/LM/LM3679.pdf; ComponentLink2Description: LM3679 Web Page; ComponentLink2URL: http://www.national.com/pf/LM/LM3679.html; ComponentLink3Description: URA05HHA Package Page; ComponentLink3URL: http://www.national.com/packaging/folders/ura05hha.html
footprint URA05HHA (Micro SMD, 5-Leads, Body 1.5x1.13mm, Pitch 0.5mm, NSC Recommended)
pins: A1 VIN (power), A3 GND (power), B2 SW (power), C1 EN (in), C3 FB (in)

## LM3679URX-1.5/NOPB
designator U?
3MHz, 350mA Miniature Step-Down DC-DC Converter for Ultra Low Profile Applications (Height < 0.55mm), 5-pin Micro SMD, Pb-Free; PartNumber: LM3679URX-1.5/NOPB; Manufacturer: National Semiconductor; PackageTopMarking: XV*I 4; PowerWise: N; CompType: MiscPower; Published: 1-Mar-2010; DatasheetVersion: Feb-2008; PackageVersion: Feb-2008; PackageReference: URA05HHA; Publisher: Altium Limited; PackageDescription: Ultra Thin Micro SMD, 5 Bump (Large), 0.5mm Pitch; Supplier 1: Digi-Key; Supplier Part Number 1: LM3679URX-1.5-ND; RoHS: Y; PinCount: 5; ComponentLink1Description: LM3679 Datasheet; ComponentLink1URL: http://www.national.com/ds/LM/LM3679.pdf; ComponentLink2Description: LM3679 Web Page; ComponentLink2URL: http://www.national.com/pf/LM/LM3679.html; ComponentLink3Description: URA05HHA Package Page; ComponentLink3URL: http://www.national.com/packaging/folders/ura05hha.html
footprint URA05HHA (Micro SMD, 5-Leads, Body 1.5x1.13mm, Pitch 0.5mm, NSC Recommended)
pins: A1 VIN (power), A3 GND (power), B2 SW (power), C1 EN (in), C3 FB (in)

## LM3679URX-1.8/NOPB
designator U?
3MHz, 350mA Miniature Step-Down DC-DC Converter for Ultra Low Profile Applications (Height < 0.55mm), 5-pin Micro SMD, Pb-Free; PartNumber: LM3679URX-1.8/NOPB; Manufacturer: National Semiconductor; PackageTopMarking: XV*I R; PowerWise: Y; CompType: MiscPower; Published: 1-Mar-2010; DatasheetVersion: Feb-2008; PackageVersion: Feb-2008; PackageReference: URA05HHA; Publisher: Altium Limited; PackageDescription: Ultra Thin Micro SMD, 5 Bump (Large), 0.5mm Pitch; Supplier 1: Digi-Key; Supplier Part Number 1: LM3679URX-1.8-ND; RoHS: Y; PinCount: 5; ComponentLink1Description: LM3679 Datasheet; ComponentLink1URL: http://www.national.com/ds/LM/LM3679.pdf; ComponentLink2Description: LM3679 Web Page; ComponentLink2URL: http://www.national.com/pf/LM/LM3679.html; ComponentLink3Description: URA05HHA Package Page; ComponentLink3URL: http://www.national.com/packaging/folders/ura05hha.html
footprint URA05HHA (Micro SMD, 5-Leads, Body 1.5x1.13mm, Pitch 0.5mm, NSC Recommended)
pins: A1 VIN (power), A3 GND (power), B2 SW (power), C1 EN (in), C3 FB (in)

## LM3686TLE-AADW/NOPB
designator U?
Step-Down DC-DC Converter with Integrated Post Linear Regulators System and Low-Noise Linear Regulator, 12-pin Micro SMD, Pb-Free; PartNumber: LM3686TLE-AADW/NOPB; Manufacturer: National Semiconductor; PackageTopMarking: XYTT*I SUEB; PowerWise: N; CompType: MiscPower; Published: 1-Mar-2010; DatasheetVersion: Dec-2008; PackageVersion: revC, Jan-2004; PackageReference: TLA12HTA; Publisher: Altium Limited; PackageDescription: Thin Micro SMD, 12 Bump (Large), Area Array, 0.5mm Pitch; Supplier 1: Digi-Key; Supplier Part Number 1: LM3686TLE-AADWTR-ND; Supplier 2: Digi-Key; Supplier Part Number 2: LM3686TLE-AADWCT-ND; Supplier 3: Digi-Key; Supplier Part Number 3: LM3686TLE-AADWDKR-ND; RoHS: Y; PinCount: 12; Code_JEDEC: MO-211-DE; ComponentLink1Description: LM3686 Datasheet; ComponentLink1URL: http://www.national.com/ds/LM/LM3686.pdf; ComponentLink2Description: LM3686 Web Page; ComponentLink2URL: http://www.national.com/pf/LM/LM3686.html; ComponentLink3Description: TLA12HTA Package Page; ComponentLink3URL: http://www.national.com/packaging/folders/tla12hta.html
footprint TLA12HTA (Micro SMD, 12-Leads, Body 2.43x1.69mm, Pitch 0.5mm, NSC Recommended)
pins: A1 PGND (power), A2 SW (power), A3 FB_DCDC (in), B1 VBATT (power), B2 EN_LILO (in), B3 EN_DCDC (in), C1 VIN_LDO (power), C2 EN_LDO (in), C3 QGND (power), D1 VOUT_LDO (out), D2 VOUT_LILO (out), D3 VIN_LILO (in)

## LM3686TLE-AAED
designator U?
Step-Down DC-DC Converter with Integrated Post Linear Regulators System and Low-Noise Linear Regulator, 12-pin Micro SMD; PartNumber: LM3686TLE-AAED; Manufacturer: National Semiconductor; PackageTopMarking: XYTT*I SXTB; PowerWise: N; CompType: MiscPower; Published: 29-May-2009; DatasheetVersion: Dec-2008; PackageVersion: revC, Jan-2004; PackageReference: TLA12HTA; Publisher: Altium Limited; PackageDescription: Thin Micro SMD, 12 Bump (Large), Area Array, 0.5mm Pitch; RoHS: Y; PinCount: 12; Code_JEDEC: MO-211-DE; ComponentLink1Description: LM3686 Datasheet; ComponentLink1URL: http://www.national.com/ds/LM/LM3686.pdf; ComponentLink2Description: LM3686 Web Page; ComponentLink2URL: http://www.national.com/pf/LM/LM3686.html; ComponentLink3Description: TLA12HTA Package Page; ComponentLink3URL: http://www.national.com/packaging/folders/tla12hta.html
footprint TLA12HTA (Micro SMD, 12-Leads, Body 2.43x1.69mm, Pitch 0.5mm, NSC Recommended)
pins: A1 PGND (power), A2 SW (power), A3 FB_DCDC (in), B1 VBATT (power), B2 EN_LILO (in), B3 EN_DCDC (in), C1 VIN_LDO (power), C2 EN_LDO (in), C3 QGND (power), D1 VOUT_LDO (out), D2 VOUT_LILO (out), D3 VIN_LILO (in)

## LM3686TLE-AAED/NOPB
designator U?
Step-Down DC-DC Converter with Integrated Post Linear Regulators System and Low-Noise Linear Regulator, 12-pin Micro SMD, Pb-Free; PartNumber: LM3686TLE-AAED/NOPB; Manufacturer: National Semiconductor; PackageTopMarking: XYTT*I SXTB; PowerWise: N; CompType: MiscPower; Published: 1-Mar-2010; DatasheetVersion: Dec-2008; PackageVersion: revC, Jan-2004; PackageReference: TLA12HTA; Publisher: Altium Limited; PackageDescription: Thin Micro SMD, 12 Bump (Large), Area Array, 0.5mm Pitch; Supplier 1: Digi-Key; Supplier Part Number 1: LM3686TLE-AAEDTR-ND; Supplier 2: Digi-Key; Supplier Part Number 2: LM3686TLE-AAEDCT-ND; Supplier 3: Digi-Key; Supplier Part Number 3: LM3686TLE-AAEDDKR-ND; RoHS: Y; PinCount: 12; Code_JEDEC: MO-211-DE; ComponentLink1Description: LM3686 Datasheet; ComponentLink1URL: http://www.national.com/ds/LM/LM3686.pdf; ComponentLink2Description: LM3686 Web Page; ComponentLink2URL: http://www.national.com/pf/LM/LM3686.html; ComponentLink3Description: TLA12HTA Package Page; ComponentLink3URL: http://www.national.com/packaging/folders/tla12hta.html
footprint TLA12HTA (Micro SMD, 12-Leads, Body 2.43x1.69mm, Pitch 0.5mm, NSC Recommended)
pins: A1 PGND (power), A2 SW (power), A3 FB_DCDC (in), B1 VBATT (power), B2 EN_LILO (in), B3 EN_DCDC (in), C1 VIN_LDO (power), C2 EN_LDO (in), C3 QGND (power), D1 VOUT_LDO (out), D2 VOUT_LILO (out), D3 VIN_LILO (in)

## LM3686TLE-AAEF
designator U?
Step-Down DC-DC Converter with Integrated Post Linear Regulators System and Low-Noise Linear Regulator, 12-pin Micro SMD; PartNumber: LM3686TLE-AAEF; Manufacturer: National Semiconductor; PackageTopMarking: XYTT*I SXZB; PowerWise: N; CompType: MiscPower; Published: 29-May-2009; DatasheetVersion: Dec-2008; PackageVersion: revC, Jan-2004; PackageReference: TLA12HTA; Publisher: Altium Limited; PackageDescription: Thin Micro SMD, 12 Bump (Large), Area Array, 0.5mm Pitch; RoHS: Y; PinCount: 12; Code_JEDEC: MO-211-DE; ComponentLink1Description: LM3686 Datasheet; ComponentLink1URL: http://www.national.com/ds/LM/LM3686.pdf; ComponentLink2Description: LM3686 Web Page; ComponentLink2URL: http://www.national.com/pf/LM/LM3686.html; ComponentLink3Description: TLA12HTA Package Page; ComponentLink3URL: http://www.national.com/packaging/folders/tla12hta.html
footprint TLA12HTA (Micro SMD, 12-Leads, Body 2.43x1.69mm, Pitch 0.5mm, NSC Recommended)
pins: A1 PGND (power), A2 SW (power), A3 FB_DCDC (in), B1 VBATT (power), B2 EN_LILO (in), B3 EN_DCDC (in), C1 VIN_LDO (power), C2 EN_LDO (in), C3 QGND (power), D1 VOUT_LDO (out), D2 VOUT_LILO (out), D3 VIN_LILO (in)

## LM3686TLE-AAEF/NOPB
designator U?
Step-Down DC-DC Converter with Integrated Post Linear Regulators System and Low-Noise Linear Regulator, 12-pin Micro SMD, Pb-Free; PartNumber: LM3686TLE-AAEF/NOPB; Manufacturer: National Semiconductor; PackageTopMarking: XYTT*I SXZB; PowerWise: N; CompType: MiscPower; Published: 1-Mar-2010; DatasheetVersion: Dec-2008; PackageVersion: revC, Jan-2004; PackageReference: TLA12HTA; Publisher: Altium Limited; PackageDescription: Thin Micro SMD, 12 Bump (Large), Area Array, 0.5mm Pitch; Supplier 1: Digi-Key; Supplier Part Number 1: LM3686TLE-AAEFTR-ND; Supplier 2: Digi-Key; Supplier Part Number 2: LM3686TLE-AAEFCT-ND; Supplier 3: Digi-Key; Supplier Part Number 3: LM3686TLE-AAEFDKR-ND; RoHS: Y; PinCount: 12; Code_JEDEC: MO-211-DE; ComponentLink1Description: LM3686 Datasheet; ComponentLink1URL: http://www.national.com/ds/LM/LM3686.pdf; ComponentLink2Description: LM3686 Web Page; ComponentLink2URL: http://www.national.com/pf/LM/LM3686.html; ComponentLink3Description: TLA12HTA Package Page; ComponentLink3URL: http://www.national.com/packaging/folders/tla12hta.html
footprint TLA12HTA (Micro SMD, 12-Leads, Body 2.43x1.69mm, Pitch 0.5mm, NSC Recommended)
pins: A1 PGND (power), A2 SW (power), A3 FB_DCDC (in), B1 VBATT (power), B2 EN_LILO (in), B3 EN_DCDC (in), C1 VIN_LDO (power), C2 EN_LDO (in), C3 QGND (power), D1 VOUT_LDO (out), D2 VOUT_LILO (out), D3 VIN_LILO (in)

## LM3686TLX-AADW/NOPB
designator U?
Step-Down DC-DC Converter with Integrated Post Linear Regulators System and Low-Noise Linear Regulator, 12-pin Micro SMD, Pb-Free; PartNumber: LM3686TLX-AADW/NOPB; Manufacturer: National Semiconductor; PackageTopMarking: XYTT*I SUEB; PowerWise: N; CompType: MiscPower; Published: 1-Mar-2010; DatasheetVersion: Dec-2008; PackageVersion: revC, Jan-2004; PackageReference: TLA12HTA; Publisher: Altium Limited; PackageDescription: Thin Micro SMD, 12 Bump (Large), Area Array, 0.5mm Pitch; Supplier 1: Digi-Key; Supplier Part Number 1: LM3686TLX-AADW-ND; RoHS: Y; PinCount: 12; Code_JEDEC: MO-211-DE; ComponentLink1Description: LM3686 Datasheet; ComponentLink1URL: http://www.national.com/ds/LM/LM3686.pdf; ComponentLink2Description: LM3686 Web Page; ComponentLink2URL: http://www.national.com/pf/LM/LM3686.html; ComponentLink3Description: TLA12HTA Package Page; ComponentLink3URL: http://www.national.com/packaging/folders/tla12hta.html
footprint TLA12HTA (Micro SMD, 12-Leads, Body 2.43x1.69mm, Pitch 0.5mm, NSC Recommended)
pins: A1 PGND (power), A2 SW (power), A3 FB_DCDC (in), B1 VBATT (power), B2 EN_LILO (in), B3 EN_DCDC (in), C1 VIN_LDO (power), C2 EN_LDO (in), C3 QGND (power), D1 VOUT_LDO (out), D2 VOUT_LILO (out), D3 VIN_LILO (in)

## LM3686TLX-AAED/NOPB
designator U?
Step-Down DC-DC Converter with Integrated Post Linear Regulators System and Low-Noise Linear Regulator, 12-pin Micro SMD, Pb-Free; PartNumber: LM3686TLX-AAED/NOPB; Manufacturer: National Semiconductor; PackageTopMarking: XYTT*I SXTB; PowerWise: N; CompType: MiscPower; Published: 1-Mar-2010; DatasheetVersion: Dec-2008; PackageVersion: revC, Jan-2004; PackageReference: TLA12HTA; Publisher: Altium Limited; PackageDescription: Thin Micro SMD, 12 Bump (Large), Area Array, 0.5mm Pitch; Supplier 1: Digi-Key; Supplier Part Number 1: LM3686TLX-AAED-ND; RoHS: Y; PinCount: 12; Code_JEDEC: MO-211-DE; ComponentLink1Description: LM3686 Datasheet; ComponentLink1URL: http://www.national.com/ds/LM/LM3686.pdf; ComponentLink2Description: LM3686 Web Page; ComponentLink2URL: http://www.national.com/pf/LM/LM3686.html; ComponentLink3Description: TLA12HTA Package Page; ComponentLink3URL: http://www.national.com/packaging/folders/tla12hta.html
footprint TLA12HTA (Micro SMD, 12-Leads, Body 2.43x1.69mm, Pitch 0.5mm, NSC Recommended)
pins: A1 PGND (power), A2 SW (power), A3 FB_DCDC (in), B1 VBATT (power), B2 EN_LILO (in), B3 EN_DCDC (in), C1 VIN_LDO (power), C2 EN_LDO (in), C3 QGND (power), D1 VOUT_LDO (out), D2 VOUT_LILO (out), D3 VIN_LILO (in)

## LM3686TLX-AAEF/NOPB
designator U?
Step-Down DC-DC Converter with Integrated Post Linear Regulators System and Low-Noise Linear Regulator, 12-pin Micro SMD, Pb-Free; PartNumber: LM3686TLX-AAEF/NOPB; Manufacturer: National Semiconductor; PackageTopMarking: XYTT*I SXZB; PowerWise: N; CompType: MiscPower; Published: 1-Mar-2010; DatasheetVersion: Dec-2008; PackageVersion: revC, Jan-2004; PackageReference: TLA12HTA; Publisher: Altium Limited; PackageDescription: Thin Micro SMD, 12 Bump (Large), Area Array, 0.5mm Pitch; Supplier 1: Digi-Key; Supplier Part Number 1: LM3686TLX-AAEF-ND; RoHS: Y; PinCount: 12; Code_JEDEC: MO-211-DE; ComponentLink1Description: LM3686 Datasheet; ComponentLink1URL: http://www.national.com/ds/LM/LM3686.pdf; ComponentLink2Description: LM3686 Web Page; ComponentLink2URL: http://www.national.com/pf/LM/LM3686.html; ComponentLink3Description: TLA12HTA Package Page; ComponentLink3URL: http://www.national.com/packaging/folders/tla12hta.html
footprint TLA12HTA (Micro SMD, 12-Leads, Body 2.43x1.69mm, Pitch 0.5mm, NSC Recommended)
pins: A1 PGND (power), A2 SW (power), A3 FB_DCDC (in), B1 VBATT (power), B2 EN_LILO (in), B3 EN_DCDC (in), C1 VIN_LDO (power), C2 EN_LDO (in), C3 QGND (power), D1 VOUT_LDO (out), D2 VOUT_LILO (out), D3 VIN_LILO (in)

## LM3687TL-1812/NOPB
designator U?
Step-Down DC-DC Converter with Integrated Low Dropout Regulator and Startup Mode, 9-pin Micro SMD, Pb-Free; PartNumber: LM3687TL-1812/NOPB; Manufacturer: National Semiconductor; PackageTopMarking: XV*I SB; PowerWise: N; CompType: MiscPower; Published: 1-Mar-2010; DatasheetVersion: Jul-2008; PackageVersion: revC, Jan-2004; PackageReference: TLA09BBA; Publisher: Altium Limited; PackageDescription: Thin Micro SMD, 9 Bump (Large), 0.5mm Pitch; Supplier 1: Digi-Key; Supplier Part Number 1: LM3687TL-1812TR-ND; Supplier 2: Digi-Key; Supplier Part Number 2: LM3687TL-1812CT-ND; Supplier 3: Digi-Key; Supplier Part Number 3: LM3687TL-1812DKR-ND; Supplier 4: Farnell; Supplier Part Number 4: 1685778; RoHS: Y; PinCount: 9; Code_JEDEC: MO-211-DD; ComponentLink1Description: LM3687 Datasheet; ComponentLink1URL: http://www.national.com/ds/LM/LM3687.pdf; ComponentLink2Description: LM3687 Web Page; ComponentLink2URL: http://www.national.com/pf/LM/LM3687.html; ComponentLink3Description: TLA09BBA Package Page; ComponentLink3URL: http://www.national.com/packaging/folders/tla09bba.html
footprint TLA09BBA (Micro SMD, 9-Leads, Body 1.54x1.54mm, Pitch 0.5mm, NSC Recommended)
pins: A1 PGND (power), A2 SGND (power), A3 VOUT_LIN (out), B1 SW (power), B2 EN_DCDC (in), B3 VIN_LIN (power), C1 VBATT (power), C2 FB_DCDC (in), C3 EN_LIN (power)

## LM3687TL-1815/NOPB
designator U?
Step-Down DC-DC Converter with Integrated Low Dropout Regulator and Startup Mode, 9-pin Micro SMD, Pb-Free; PartNumber: LM3687TL-1815/NOPB; Manufacturer: National Semiconductor; PackageTopMarking: XV*I S9; PowerWise: Y; CompType: MiscPower; Published: 1-Mar-2010; DatasheetVersion: Jul-2008; PackageVersion: revC, Jan-2004; PackageReference: TLA09BBA; Publisher: Altium Limited; PackageDescription: Thin Micro SMD, 9 Bump (Large), 0.5mm Pitch; Supplier 1: Digi-Key; Supplier Part Number 1: LM3687TL-1815TR-ND; Supplier 2: Digi-Key; Supplier Part Number 2: LM3687TL-1815CT-ND; Supplier 3: Digi-Key; Supplier Part Number 3: LM3687TL-1815DKR-ND; Supplier 4: Farnell; Supplier Part Number 4: 1685780; RoHS: Y; PinCount: 9; Code_JEDEC: MO-211-DD; ComponentLink1Description: LM3687 Datasheet; ComponentLink1URL: http://www.national.com/ds/LM/LM3687.pdf; ComponentLink2Description: LM3687 Web Page; ComponentLink2URL: http://www.national.com/pf/LM/LM3687.html; ComponentLink3Description: TLA09BBA Package Page; ComponentLink3URL: http://www.national.com/packaging/folders/tla09bba.html
footprint TLA09BBA (Micro SMD, 9-Leads, Body 1.54x1.54mm, Pitch 0.5mm, NSC Recommended)
pins: A1 PGND (power), A2 SGND (power), A3 VOUT_LIN (out), B1 SW (power), B2 EN_DCDC (in), B3 VIN_LIN (power), C1 VBATT (power), C2 FB_DCDC (in), C3 EN_LIN (power)

## LM3687TLX-1812/NOPB
designator U?
Step-Down DC-DC Converter with Integrated Low Dropout Regulator and Startup Mode, 9-pin Micro SMD, Pb-Free; PartNumber: LM3687TLX-1812/NOPB; Manufacturer: National Semiconductor; PackageTopMarking: XV*I SB; PowerWise: N; CompType: MiscPower; Published: 1-Mar-2010; DatasheetVersion: Jul-2008; PackageVersion: revC, Jan-2004; PackageReference: TLA09BBA; Publisher: Altium Limited; PackageDescription: Thin Micro SMD, 9 Bump (Large), 0.5mm Pitch; Supplier 1: Digi-Key; Supplier Part Number 1: LM3687TLX-1812-ND; RoHS: Y; PinCount: 9; Code_JEDEC: MO-211-DD; ComponentLink1Description: LM3687 Datasheet; ComponentLink1URL: http://www.national.com/ds/LM/LM3687.pdf; ComponentLink2Description: LM3687 Web Page; ComponentLink2URL: http://www.national.com/pf/LM/LM3687.html; ComponentLink3Description: TLA09BBA Package Page; ComponentLink3URL: http://www.national.com/packaging/folders/tla09bba.html
footprint TLA09BBA (Micro SMD, 9-Leads, Body 1.54x1.54mm, Pitch 0.5mm, NSC Recommended)
pins: A1 PGND (power), A2 SGND (power), A3 VOUT_LIN (out), B1 SW (power), B2 EN_DCDC (in), B3 VIN_LIN (power), C1 VBATT (power), C2 FB_DCDC (in), C3 EN_LIN (power)